# Altium footprint library QFN65P400X400X80-17N.PcbLib: 1 footprints
Each footprint in its own frame and in the unit in brackets; x right, y up, seen from the top. Pads: shape width x height; smd on the part's side, far side on the other; paste and mask are expansions set on the pad; w line width, h text height; cw(c..) or ccw(c..) is an arc to the next point about the centre after c.
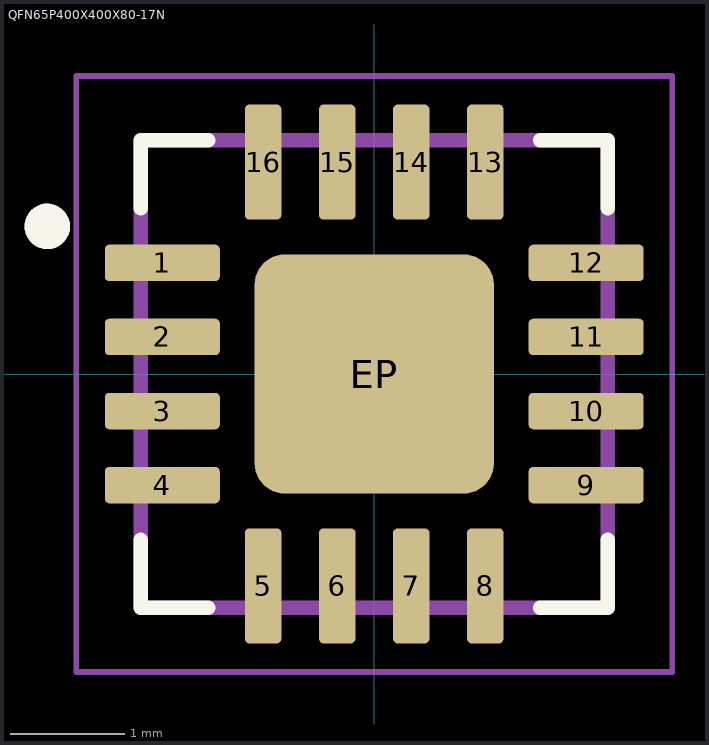
[diagram p0: the footprint, top view; thin cyan lines are the x and y axes]

## QFN65P400X400X80-17N [mm]
pads (17):
  rrect25% 1.01x0.32 smd: 1(-1.86,0.975) 2(-1.86,0.325) 3(-1.86,-0.325) 4(-1.86,-0.975) 9(1.86,-0.975) 10(1.86,-0.325) 11(1.86,0.325) 12(1.86,0.975)
  rrect25% 0.32x1.01 smd: 5(-0.975,-1.86) 6(-0.325,-1.86) 7(0.325,-1.86) 8(0.975,-1.86) 13(0.975,1.86) 14(0.325,1.86) 15(-0.325,1.86) 16(-0.975,1.86)
  rrect25% 2.1x2.1 smd paste-0.386: EP(0,0)
Top Overlay:
  circle w0.2: c-2.87,1.295 r0.1
  lines w0.127: -2.05,-1.455 -2.05,-2.05 -1.455,-2.05 ; -2.05,1.455 -2.05,2.05 -1.455,2.05 ; 1.455,-2.05 2.05,-2.05 2.05,-1.455 ; 1.455,2.05 2.05,2.05 2.05,1.455
Mechanical 13:
  circle w0.2: c-2.87,1.295 r0.1
  lines w0.127: -2.05,-2.05 -2.05,2.05 2.05,2.05 2.05,-2.05 -2.05,-2.05
Mechanical 15:
  lines w0.05: -2.615,-2.615 -2.615,2.615 2.615,2.615 2.615,-2.615 -2.615,-2.615
3D body "ALSRobot-QFN16 4x4.STEP": height 0.92, standoff 0, extent -2.007,-2.007 1.993,1.993